# Altium schematic symbol library Termistor.SchLib: 1 symbol
Pins are listed as number, name and electrical type; pins without a type are passive.

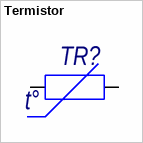
[diagram p0: symbol Termistor]

## Termistor
designator TR?
Термистор
pins: 1, 2
text: t°